# EAGLE library part GY-87 (library pechera)
FEMALE HEADER
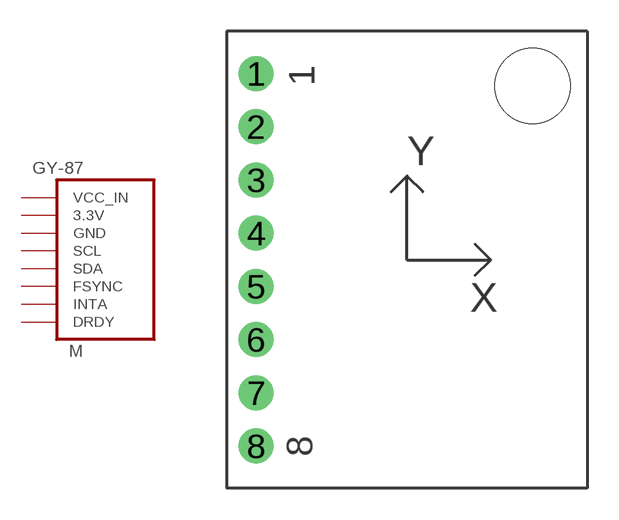
[diagram p0: symbol with the pads of GY-87; footprint GY-87]

Designator prefix M

## GY-87 (OC_FARNELL: unknown; OC_NEWARK: unknown)  [GY-87]
1  VCC_IN  pas
2  3.3V  pas
3  GND  pas
4  SCL  pas
5  SDA  pas
6  FSYNC  pas
7  INTA  pas
8  DRDY  pas

## Footprint GY-87 (pad centres in mm)
FEMALE HEADER
drill 0.813 pad 1.676: 1 -7.2,8.89; 2 -7.2,6.35; 3 -7.2,3.81; 4 -7.2,1.27; 5 -7.2,-1.27; 6 -7.2,-3.81; 7 -7.2,-6.35; 8 -7.2,-8.89
hole 3.6 at 6,8.3